# EAGLE library part TUC (library metraTec_OEM)
TCP to UART converter, SMT, POE Output, 3V3 130mA supply, 2x 3V3 UART, 2 GPIOs
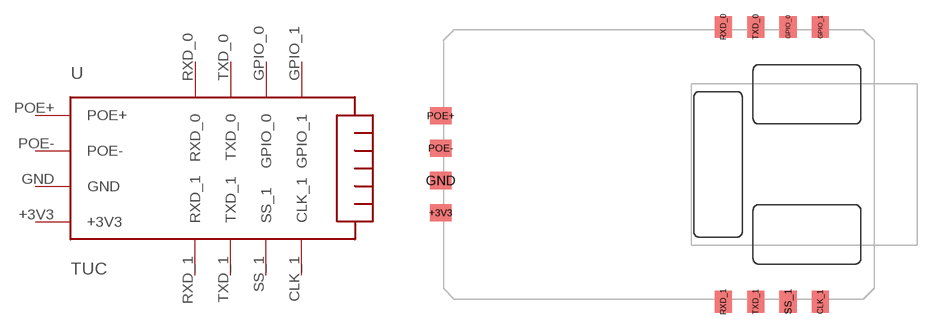
[diagram p6: symbol with the pads of TUC; footprint TUC]

Designator prefix -

## TUC  [TUC]
+3V3  +3V3
CLK_1  CLK_1
GND  GND
GPIO_0  GPIO_0
GPIO_1  GPIO_1
POE+  POE+
POE-  POE-
RXD_0  RXD_0
RXD_1  RXD_1
SS_1  SS_1
TXD_0  TXD_0
TXD_1  TXD_1

## Footprint TUC (pad centres in mm)
smd 2 x 1.6: +3V3 -0.25,8; GND -0.25,11; POE+ -0.25,17; POE- -0.25,14
smd 1.6 x 2: CLK_1 35,-0.25; GPIO_0 32,25.25; GPIO_1 35,25.25; RXD_0 26,25.25; RXD_1 26,-0.25; SS_1 32,-0.25; TXD_0 29,25.25; TXD_1 29,-0.25